# Altium footprint library RE1C002UNTCL.PcbLib: 3 footprints
Each footprint in its own frame and in the unit in brackets; x right, y up, seen from the top. Pads: shape width x height; smd on the part's side, far side on the other; paste and mask are expansions set on the pad; w line width, h text height; cw(c..) or ccw(c..) is an arc to the next point about the centre after c.
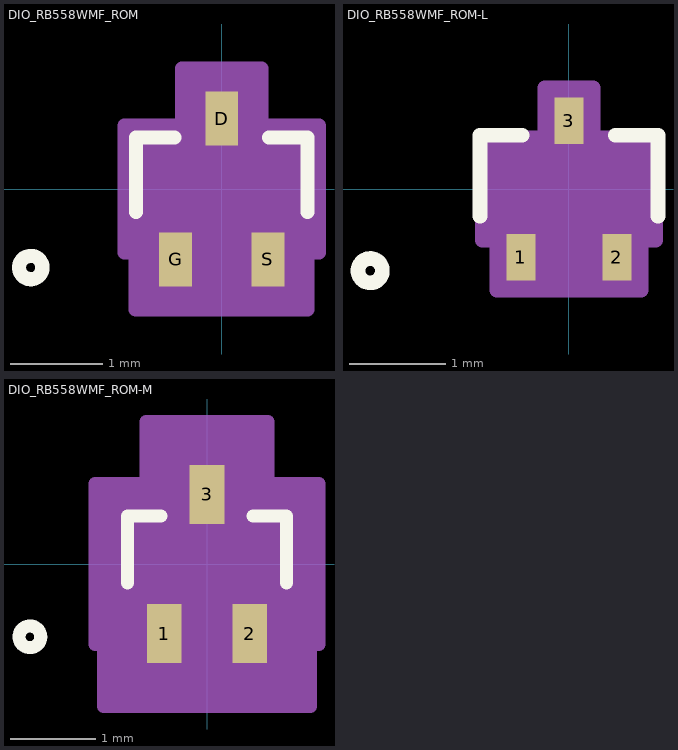
[diagram p0: the footprints below, top view; thin cyan lines are the x and y axes]

## DIO_RB558WMF_ROM [mil]
pads (3):
  rect 14x23 smd paste+0 mask+0: D(0,30) G(-19.68,-30) S(19.68,-30)
Top Overlay:
  circle w6: c-81.5,-33.5 r5
  lines w6: -36.5,-9.82 -36.5,22 -20.1,22 ; 20.1,22 36.5,22 36.5,-9.82
Mechanical 13:
  circle w0: c-21.5,-7 r5
  lines w1: -31.5,-17 31.5,-17 31.5,17 -31.5,17 -31.5,-17 ; -26.68,-33.5 -26.68,-17 -12.69,-17 -12.69,-33.5 -26.68,-33.5 ; -7,17 7,17 7,33.5 -7,33.5 -7,17 ; 12.69,-33.5 12.69,-17 26.68,-17 26.68,-33.5 12.69,-33.5
Mechanical 15:
  region: -41.5,-27 -41.5,27 -17,27 -17,51.5 17,51.5 17,27 41.5,27 41.5,-27 36.69,-27 36.69,-51.5 -36.69,-51.5 -36.69,-27
  region: 31.5,-17 -31.5,-17 -31.5,17 31.5,17
  lines w6: -41.5,-27 -41.5,27 -17,27 -17,51.5 17,51.5 17,27 41.5,27 41.5,-27 36.69,-27 36.69,-51.5 -36.69,-51.5 -36.69,-27 -41.5,-27
3D body "DIO_RB558WMF_ROM.step": height 34.09, standoff 0, extent -31.5,-26 31.5,26

## DIO_RB558WMF_ROM-L [mil]
pads (3):
  rect 12x19 smd paste+0 mask+0: 1(-19.68,-28) 2(19.68,-28) 3(0,28)
Top Overlay:
  circle w6: c-81.5,-33.5 r5
  lines w6: -36.5,-11.11 -36.5,22 -19.1,22 ; 19.1,22 36.5,22 36.5,-11.11
Mechanical 13:
  circle w0: c-21.5,-7 r5
  lines w1: -31.5,-17 31.5,-17 31.5,17 -31.5,17 -31.5,-17 ; -26.68,-33.5 -26.68,-17 -12.69,-17 -12.69,-33.5 -26.68,-33.5 ; -7,17 7,17 7,33.5 -7,33.5 -7,17 ; 12.69,-33.5 12.69,-17 26.68,-17 26.68,-33.5 12.69,-33.5
Mechanical 15:
  region: -35.5,-21 -35.5,21 -11,21 -11,41.5 11,41.5 11,21 35.5,21 35.5,-21 30.68,-21 30.68,-41.5 -30.68,-41.5 -30.68,-21
  region: 31.5,-17 -31.5,-17 -31.5,17 31.5,17
  lines w6: -35.5,-21 -35.5,21 -10,21 -10,41.5 10,41.5 10,21 35.5,21 35.5,-21 29.68,-21 29.68,-41.5 -29.68,-41.5 -29.68,-21 -35.5,-21
3D body "DIO_RB558WMF_ROM.step": height 34.09, standoff 0, extent -31.5,-26 31.5,26

## DIO_RB558WMF_ROM-M [mil]
pads (3):
  rect 16x27 smd paste+0 mask+0: 1(-19.68,-32) 2(19.68,-32) 3(0,32)
Top Overlay:
  circle w6: c-81.5,-33.5 r5
  lines w6: -36.5,-8.81 -36.5,22 -21.1,22 ; 21.1,22 36.5,22 36.5,-8.81
Mechanical 13:
  circle w0: c-21.5,-7 r5
  lines w1: -31.5,-17 31.5,-17 31.5,17 -31.5,17 -31.5,-17 ; -26.68,-33.5 -26.68,-17 -12.69,-17 -12.69,-33.5 -26.68,-33.5 ; -7,17 7,17 7,33.5 -7,33.5 -7,17 ; 12.69,-33.5 12.69,-17 26.68,-17 26.68,-33.5 12.69,-33.5
Mechanical 15:
  region: -51.5,-37 -51.5,37 -27,37 -27,65.5 27,65.5 27,37 51.5,37 51.5,-37 46.69,-37 46.69,-65.5 -46.69,-65.5 -46.69,-37
  region: 31.5,-17 -31.5,-17 -31.5,17 31.5,17
  lines w6: -51.5,-37 -51.5,37 -28,37 -28,65.5 28,65.5 28,37 51.5,37 51.5,-37 47.69,-37 47.69,-65.5 -47.69,-65.5 -47.69,-37 -51.5,-37
3D body "DIO_RB558WMF_ROM.step": height 34.09, standoff 0, extent -31.5,-26 31.5,26